# EAGLE library part 5077CR-16-SMC2-BK-TR (library FlukeNic)
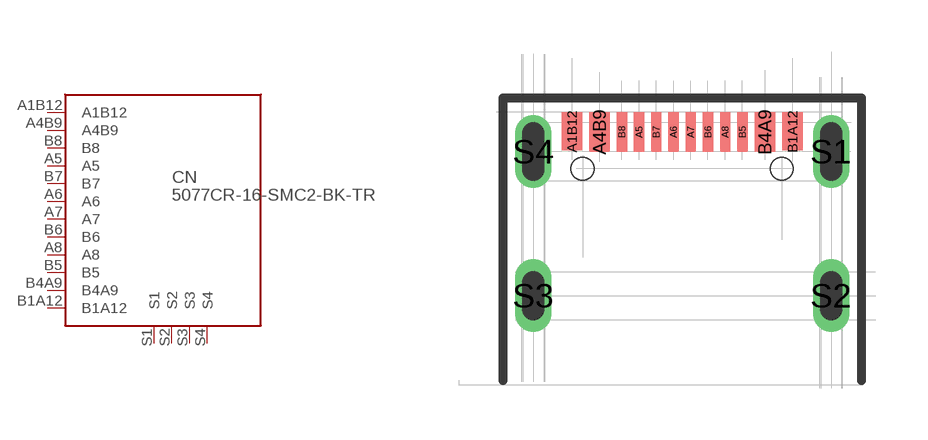
[diagram p3: symbol with the pads of 5077CR-16-SMC2-BK-TR; footprint 5077CR-16-SMC2-BK-TR]

Designator prefix CN

## 5077CR-16-SMC2-BK-TR  [5077CR-16-SMC2-BK-TR]
A1B12  A1B12
A4B9  A4B9
A5  A5
A6  A6
A7  A7
A8  A8
B1A12  B1A12
B4A9  B4A9
B5  B5
B6  B6
B7  B7
B8  B8
S1  S1
S2  S2
S3  S3
S4  S4

## Footprint 5077CR-16-SMC2-BK-TR (pad centres in mm)
smd 0.6 x 1.1: A1B12 -3.2,0.03; B1A12 3.2,0.03
smd 0.6 x 1.14: A4B9 -2.4,0.01; B4A9 2.4,0.01
smd 0.3 x 1.14: A5 -1.25,0.01; A6 -0.25,0.01; A7 0.25,0.01; A8 1.25,0.01; B5 1.75,0.01; B6 0.75,0.01; B7 -0.75,0.01; B8 -1.75,0.01
drill 0.55 long: S1 4.32,-0.56; S2 4.32,-4.74; S3 -4.32,-4.74; S4 -4.32,-0.56
hole 0.65 at -2.89,-1.06
hole 0.65 at 2.89,-1.06